# Altium footprint library Footprint.PcbLib: 31 footprints (part 2 of 2)
Each footprint in its own frame and in the unit in brackets; x right, y up, seen from the top. Pads: shape width x height; smd on the part's side, far side on the other; paste and mask are expansions set on the pad; w line width, h text height; cw(c..) or ccw(c..) is an arc to the next point about the centre after c.
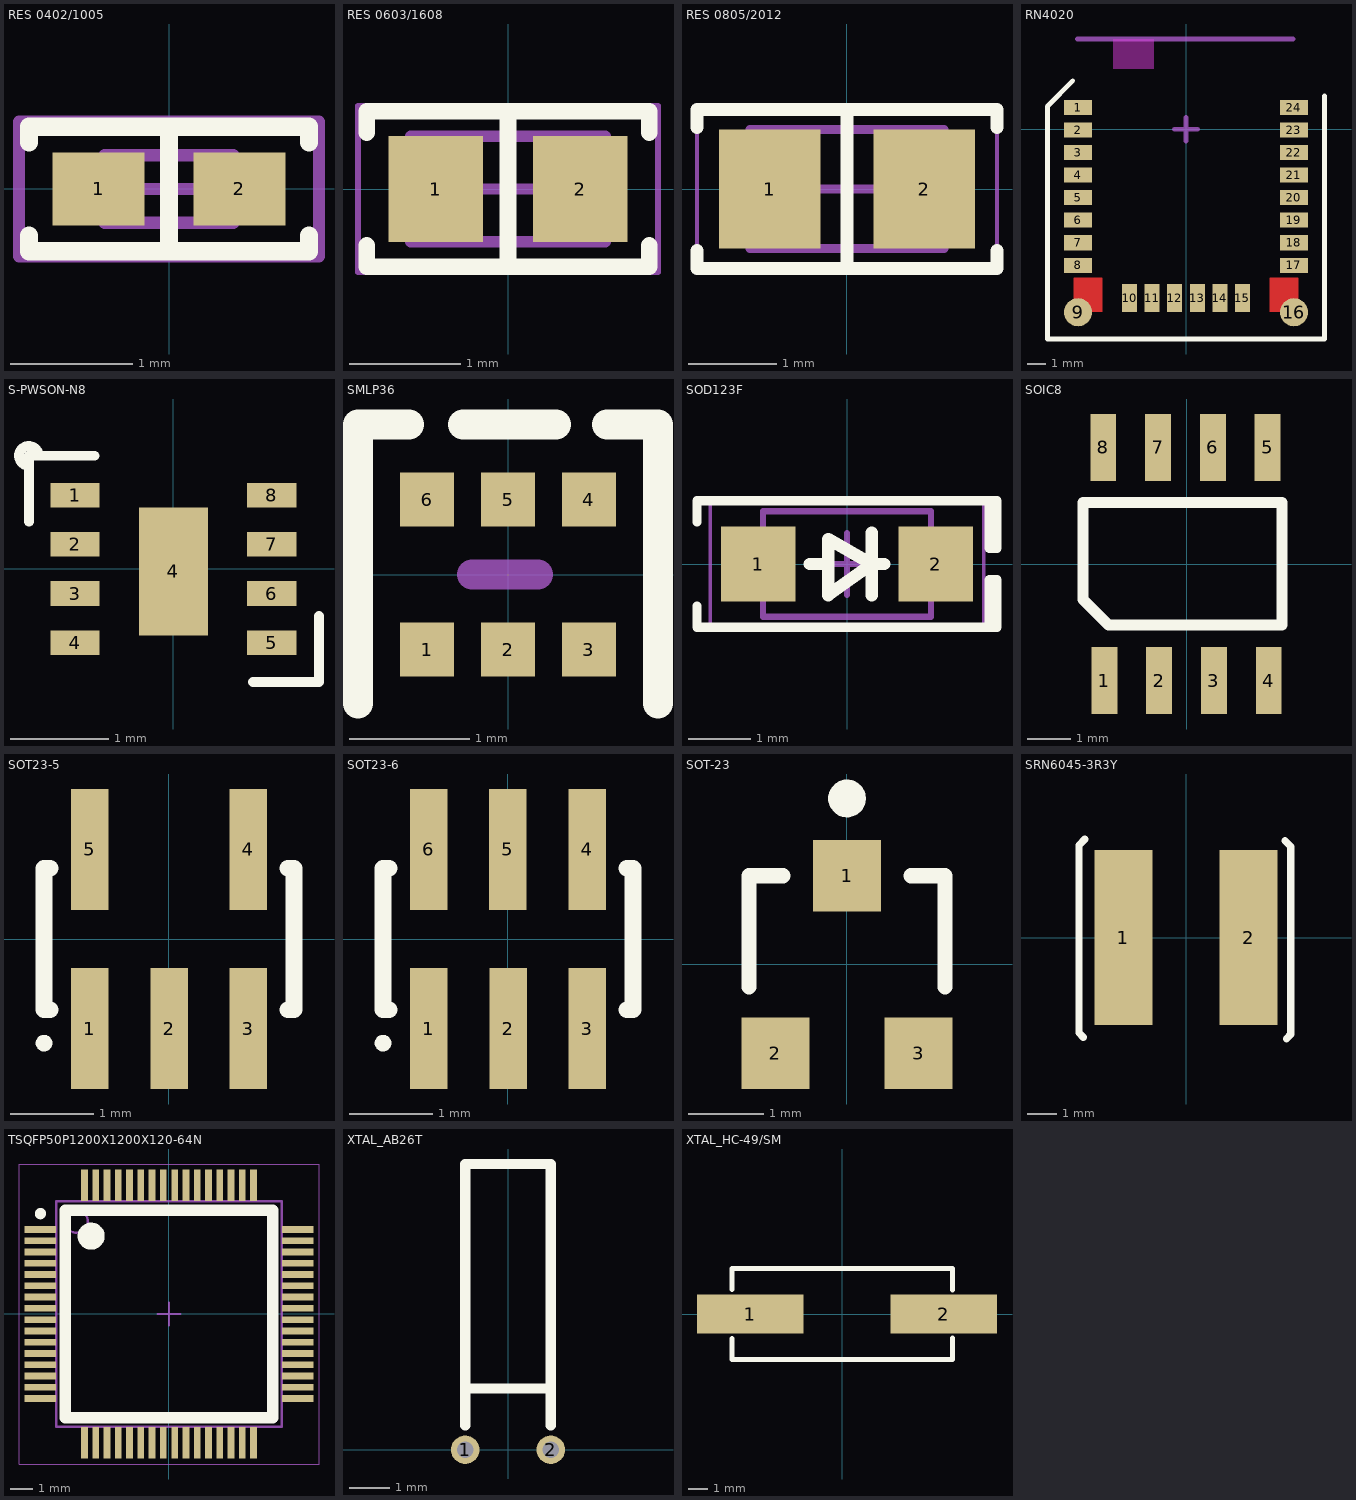
[diagram p1: the footprints below, top view; thin cyan lines are the x and y axes]

## RES 0402/1005 [mm] "Chip Resistor, 2-Leads, Body 1.0x0.5mm, IPC Medium Density"
height 0.4
pads (2):
  rect 0.75x0.6 smd: 1(-0.575,0) 2(0.575,0)
Top Overlay:
  lines w0.15: -1.143,-0.381 -1.143,-0.508 1.143,-0.508 1.143,-0.381 ; -1.143,0.381 -1.143,0.508 1.143,0.508 1.143,0.381 ; 0,-0.508 0,0.508
Mechanical 13:
  lines w0.1: -0.525,-0.275 0.525,-0.275 0.525,0.275 -0.525,0.275 -0.525,-0.275
Mechanical 15:
  lines w0.1: -0.275,0 0.275,0 ; 0,-0.275 0,0.275 ; -1.225,-0.55 1.225,-0.55 1.225,0.55 -1.225,0.55 -1.225,-0.55
3D body "0402 resistor.STEP": height 0.35, standoff 0, extent -0.5,-0.25 0.5,0.25

## RES 0603/1608 [mm] "Chip Resistor, 2-Leads, Body 1.60x0.80mm, IPC Medium Density"
height 0.45
pads (2):
  rect 0.85x0.95 smd: 1(-0.65,0) 2(0.65,0)
Top Overlay:
  lines w0.15: -1.27,-0.508 -1.27,-0.7 1.27,-0.7 1.27,-0.508 ; -1.27,0.508 -1.27,0.7 1.27,0.7 1.27,0.508 ; 0,-0.7 0,0.7
Mechanical 13:
  lines w0.1: -0.875,-0.475 0.875,-0.475 0.875,0.475 -0.875,0.475 -0.875,-0.475
Mechanical 15:
  lines w0.05: -1.35,-0.75 1.35,-0.75 1.35,0.75 -1.35,0.75 -1.35,-0.75
  lines w0.1: -0.475,0 0.475,0 ; 0,-0.475 0,0.475
3D body "0603 resistor.STEP": height 0.45, standoff 0, extent -0.8,-0.4 0.8,0.4

## RES 0805/2012 [mm] "Chip Resistor, 2-Leads, Body 2.00x1.25mm, IPC Medium Density"
height 0.7
pads (2):
  rect 1.15x1.35 smd: 1(-0.875,0) 2(0.875,0)
Top Overlay:
  lines w0.15: -1.7,-0.7 -1.7,-0.9 1.7,-0.9 1.7,-0.7 ; -1.7,0.7 -1.7,0.9 1.7,0.9 1.7,0.7 ; 0,-0.9 0,0.9
Mechanical 13:
  lines w0.1: -1.1,-0.675 1.1,-0.675 1.1,0.675 -1.1,0.675 -1.1,-0.675
Mechanical 15:
  lines w0.05: -1.7,-0.95 1.7,-0.95 1.7,0.95 -1.7,0.95 -1.7,-0.95
  lines w0.1: -0.5,0 0.5,0 ; 0,-0.5 0,0.5
3D body "0805 resistor.STEP": height 0.6, standoff 0, extent -0.95,-0.625 1.05,0.625

## RN4020 [mm] "Bluetooth® Low Energy Module"
pads (26):
  rrect100% 1x2 on Keep-Out: 0(-4.95,3) 0(4.95,3)
  rect 1.5x0.8 smd: 1(-5.75,1.15) 2(-5.75,-0.05) 3(-5.75,-1.25) 4(-5.75,-2.45) 5(-5.75,-3.65) 6(-5.75,-4.85) 7(-5.75,-6.05) 8(-5.75,-7.25) 17(5.75,-7.25) 18(5.75,-6.05) 19(5.75,-4.85) 20(5.75,-3.65) 21(5.75,-2.45) 22(5.75,-1.25) 23(5.75,-0.05) 24(5.75,1.15)
  round 1.5 smd: 9(-5.75,-9.75) 16(5.75,-9.75)
  rect 0.8x1.5 smd: 10(-3,-9) 11(-1.8,-9) 12(-0.6,-9) 13(0.6,-9) 14(1.8,-9) 15(3,-9)
Top Layer:
  rectangle: -6,-9.75 -4.45,-7.9
  region: 6,-7.9 4.45,-7.9 4.45,-9.75 6,-9.75
Top Overlay:
  lines w0.254: -6.025,2.575 -7.375,1.225 -7.375,-11.175 7.375,-11.175 7.375,1.775
Keep-Out Layer:
  rectangle: -3.9,3.2 -1.7,4.8
Mechanical 15:
  lines w0.254: -5.775,4.8 5.7,4.8 ; -0.625,0 0.625,0 ; 0,-0.625 0,0.625
3D body: height 2.3, standoff 0.01, extent -5.75,-9.75 5.75,9.75

## S-PWSON-N8 [mm]
pads (9):
  rrect1% 0.5x0.25 smd: 1(-1,0.75) 2(-1,0.25) 3(-1,-0.25) 4(-1,-0.75) 5(1,-0.75) 6(1,-0.25) 7(1,0.25) 8(1,0.75)
  rect 0.7x1.3 smd: 4(0,-0.025)
Top Overlay:
  lines w0.1: -1.47,0.48 -1.47,1.15 -0.8,1.15 ; -1.47,1.05 cw(c-1.47,1.15) -1.37,1.15 ; 0.81,-1.15 1.48,-1.15 1.48,-0.48
3D body: height 0.8, standoff 0.05, extent -1.012,-1 1.012,0.95

## SMLP36 [mm] "PICOLED - RGB"
pads (6):
  rect 0.45x0.45 smd: 1(-0.675,-0.625) 2(0,-0.625) 3(0.675,-0.625) 4(0.675,0.625) 5(0,0.625) 6(-0.675,0.625)
Top Overlay:
  lines w0.254: -1.25,-1.075 -1.25,1.25 -0.825,1.25 ; -0.375,1.25 0.4,1.25 ; 0.825,1.25 1.25,1.25 1.25,-1.075
Mechanical 15:
  lines w0.254: -0.3,0 0.25,0
3D body: height 0.2, standoff 0.01, extent -0.913,-0.75 0.837,0.738

## SOD123F [mm] "SODFL, 2-Leads, Body 1.60x3.50mm, IPC Medium Density"
height 1
pads (2):
  rect 1.2x1.2 smd: 1(-1.43,0) 2(1.43,0)
Top Overlay:
  lines w0.15: -2.413,-0.675 -2.413,-1.016 2.286,-1.016 ; -2.413,0.675 -2.413,1.016 2.286,1.016 ; 2.286,-1.016 2.286,-0.254 2.413,-0.254 2.413,-1.016 2.286,-1.016 ; 2.286,1.016 2.413,1.016 2.413,0.254 2.286,0.254 2.286,1.016
  lines w0.2: -0.6,0 -0.3,0 ; 0.4,-0.5 0.4,0.5 ; 0.6,0 0.4,0 ; 0.4,0 -0.3,-0.5 -0.3,0.4 0.4,0
Mechanical 13:
  lines w0.1: -1.35,-0.85 1.35,-0.85 1.35,0.85 -1.35,0.85 -1.35,-0.85
Mechanical 15:
  lines w0.05: -2.2,-1 2.2,-1 2.2,1 -2.2,1 -2.2,-1
  lines w0.1: -0.5,0 0.5,0 ; 0,-0.5 0,0.5
3D body "SOD123F.STEP": height 1.1, standoff 0, extent -1.75,-0.8 1.75,0.8

## SOIC8 [mm]
pads (8):
  rect 0.6x1.55 smd: 1(-1.905,-2.7) 2(-0.635,-2.7) 3(0.635,-2.7) 4(1.905,-2.7) 5(1.88,2.7) 6(0.61,2.7) 7(-0.66,2.7) 8(-1.93,2.7)
Top Overlay:
  lines w0.254: -2.4,-0.825 -1.812,-1.413 2.213,-1.413 2.213,1.425 0,1.425 -2.4,1.425 -2.4,-0.825

## SOT23-5 [mm] "SOT-23/SC-74A; 5 Leads; Body 3.1 x 3 mm, inc. leads (LxW max)"
height 1.1
pads (5):
  rect 0.45x1.45 smd: 1(-0.95,-1.075) 2(0,-1.075) 3(0.95,-1.075) 4(0.95,1.075) 5(-0.95,1.075)
Top Overlay:
  circle w0.1: c-1.5,-1.25 r0.05
  lines w0.2: -1.425,-0.85 -1.5,-0.85 -1.5,0.85 -1.425,0.85 ; 1.425,-0.85 1.5,-0.85 1.5,0.85 1.425,0.85
3D body: height 1.3, standoff 0.15, extent -1.6,-0.881 1.6,0.881

## SOT23-6 [mm] "SOT-23/6; 6 Leads; Body 1.6 x 2.9 mm, inc. leads (LxW max)"
height 1.1
pads (6):
  rect 0.45x1.45 smd: 1(-0.95,-1.075) 2(0,-1.075) 3(0.95,-1.075) 4(0.95,1.075) 5(0,1.075) 6(-0.95,1.075)
Top Overlay:
  circle w0.1: c-1.5,-1.25 r0.05
  lines w0.2: -1.425,-0.85 -1.5,-0.85 -1.5,0.85 -1.425,0.85 ; 1.425,-0.85 1.5,-0.85 1.5,0.85 1.425,0.85
3D body: height 1.3, standoff 0.15, extent -1.6,-0.906 1.6,0.856

## SOT-23 [mm] "SOT-23; 3 Leads; Body 3.0 x 2.5 mm, inc. leads (LxW max), Alternate Lead Configuration"
height 1.1
pads (3):
  rect 0.9x0.95 smd: 1(0,1.175) 2(-0.95,-1.175) 3(0.95,-1.175)
Top Overlay:
  circle w0.25: c0,2.2 r0.125
  lines w0.2: -1.3,-0.3 -1.3,1.175 -0.85,1.175 ; 0.85,1.175 1.3,1.175 1.3,-0.3

## SRN6045-3R3Y [mm] "INDUCTOR, SHIELDED, 3.3UH, 5A, SMD"
pads (2):
  rect 2x6 smd: 1(-2.15,0) 2(2.15,0)
Top Overlay:
  lines w0.254: -3.675,3.15 -3.675,-3.275 -3.525,-3.425 ; -3.675,3.175 -3.475,3.375 ; 3.4,3.325 3.6,3.125 ; 3.45,-3.475 3.6,-3.325 3.6,3.1

## TSQFP50P1200X1200X120-64N [mm] "TSQFP, 64-Leads, Body 10.00x10.00mm, Pitch 0.50mm, IPC Medium Density"
height 1.2
pads (64):
  rect 1.4x0.3 smd: 1(-5.7,3.75) 2(-5.7,3.25) 3(-5.7,2.75) 4(-5.7,2.25) 5(-5.7,1.75) 6(-5.7,1.25) 7(-5.7,0.75) 8(-5.7,0.25) 9(-5.7,-0.25) 10(-5.7,-0.75) 11(-5.7,-1.25) 12(-5.7,-1.75) 13(-5.7,-2.25) 14(-5.7,-2.75) 15(-5.7,-3.25) 16(-5.7,-3.75) 33(5.7,-3.75) 34(5.7,-3.25) 35(5.7,-2.75) 36(5.7,-2.25) 37(5.7,-1.75) 38(5.7,-1.25) 39(5.7,-0.75) 40(5.7,-0.25) 41(5.7,0.25) 42(5.7,0.75) 43(5.7,1.25) 44(5.7,1.75) 45(5.7,2.25) 46(5.7,2.75) 47(5.7,3.25) 48(5.7,3.75)
  rect 0.3x1.4 smd: 17(-3.75,-5.7) 18(-3.25,-5.7) 19(-2.75,-5.7) 20(-2.25,-5.7) 21(-1.75,-5.7) 22(-1.25,-5.7) 23(-0.75,-5.7) 24(-0.25,-5.7) 25(0.25,-5.7) 26(0.75,-5.7) 27(1.25,-5.7) 28(1.75,-5.7) 29(2.25,-5.7) 30(2.75,-5.7) 31(3.25,-5.7) 32(3.75,-5.7) 49(3.75,5.7) 50(3.25,5.7) 51(2.75,5.7) 52(2.25,5.7) 53(1.75,5.7) 54(1.25,5.7) 55(0.75,5.7) 56(0.25,5.7) 57(-0.25,5.7) 58(-0.75,5.7) 59(-1.25,5.7) 60(-1.75,5.7) 61(-2.25,5.7) 62(-2.75,5.7) 63(-3.25,5.7) 64(-3.75,5.7)
Top Overlay:
  circle w0.6: c-3.45,3.45 r0.3
  circle w0.25: c-5.7,4.45 r0.125
  lines w0.5: -4.6,-4.6 4.6,-4.6 4.6,4.6 -4.6,4.6 -4.6,-4.6
Mechanical 13:
  circle w0.1: c-4.1,4.1 r0.5
  lines w0.1: -5,-5 5,-5 5,5 -5,5 -5,-5
Mechanical 15:
  lines w0.05: -6.65,-6.65 6.65,-6.65 6.65,6.65 -6.65,6.65 -6.65,-6.65
  lines w0.1: -0.5,0 0.5,0 ; 0,-0.5 0,0.5
3D body: height 1.2, standoff 0.05, extent -5,-5 5,5

## XTAL_AB26T [mm] "ABRACON  AB26T-32.768KHZ.  CRYSTAL, 32.768KHZ, 12.5PF, CYLINDER"
pads (2):
  round 0.7 hole 0.4: 1(-1.05,0) 2(1.05,0)
Top Overlay:
  lines w0.254: -1.05,0.6 -1.05,1.5 ; 1.05,0.6 1.05,1.5 -1.05,1.5 ; 1.05,1.475 1.05,6.975 ; 1.05,7 -1.05,7 -1.05,1.5

## XTAL_HC-49/SM [mm] "MULTICOMP   HC49SM-8-30-50-60-16-ATF  Cristal, 8 MHz, CMS, 11.4mm x 4.65mm, 50 ppm, 16 pF, 30 ppm, Série HC49SM"
pads (2):
  rect 5.5x2 smd: 1(-4.75,0) 2(5.25,0)
Top Overlay:
  lines w0.254: -5.7,-1.275 -5.7,-2.35 5.7,-2.35 5.7,-1.25 ; -5.7,1.275 -5.7,2.35 5.7,2.35 5.7,1.25